# Altium footprint library AIWAC-Camera Pinboard-V02.PcbLib: 5 footprints
Each footprint in its own frame and in the unit in brackets; x right, y up, seen from the top. Pads: shape width x height; smd on the part's side, far side on the other; paste and mask are expansions set on the pad; w line width, h text height; cw(c..) or ccw(c..) is an arc to the next point about the centre after c.
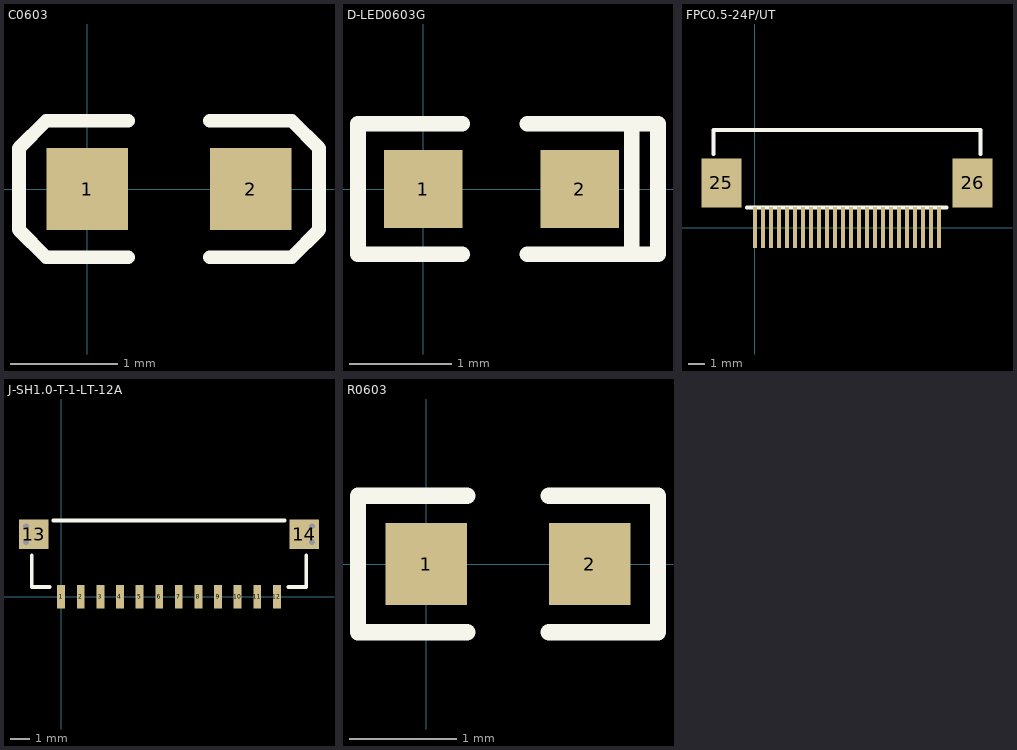
[diagram p0: the footprints below, top view; thin cyan lines are the x and y axes]

## C0603 [mil]
height 12
pads (2):
  rect 30x30 smd: 1(0,0) 2(60,0)
Top Overlay:
  lines w5: 15,-25 -15,-25 -25,-15 -25,15 -15,25 15,25 ; 45,-25 75,-25 85,-15 85,15 75,25 45,25
3D body "C0603.STEP": height 11.89, standoff 0, extent -1.49,-15.5 61.5,16

## D-LED0603G [mil]
height 39.37
pads (2):
  rect 30x30 smd: 1(0,0) 2(60,0)
Top Overlay:
  lines w6: 15,-25 -25,-25 -25,25 15,25 ; 40,-25 90,-25 90,25 40,25 ; 80,-25 80,25
3D body "LED_0603_GREEN.STEP": height 23.62, standoff 0, extent -1.89,-16.5 61.89,15

## FPC0.5-24P/UT [mm]
pads (26):
  rect 0.25x2.54 smd: 1(0,0) 2(0.5,0) 3(1,0) 4(1.5,0) 5(2,0) 6(2.5,0) 7(3,0) 8(3.5,0) 9(4,0) 10(4.5,0) 11(5,0) 12(5.5,0) 13(6,0) 14(6.5,0) 15(7,0) 16(7.5,0) 17(8,0) 18(8.5,0) 19(9,0) 20(9.5,0) 21(10,0) 22(10.5,0) 23(11,0) 24(11.5,0)
  rect 2.5x3.048 smd: 25(-2.1,2.783) 26(13.6,2.783)
Top Overlay:
  lines w0.254: -2.6,4.6 -2.6,6.085 14.1,6.085 14.1,4.6 ; -0.5,1.259 11.959,1.259

## J-SH1.0-T-1-LT-12A [mm]
pads (14):
  rect 0.4x1.2 smd: 1(0,0) 2(1,0) 3(2,0) 4(3,0) 5(4,0) 6(5,0) 7(6,0) 8(7,0) 9(8,0) 10(9,0) 11(10,0) 12(11,0)
  rect 1.5x1.5 smd: 13(-1.4,3.2) 14(12.4,3.2)
via -1.8,3.6 diameter 0.508 hole 0.305
via -1.8,2.8 diameter 0.508 hole 0.305
via 12.8,3.6 diameter 0.508 hole 0.305
via 12.8,2.8 diameter 0.508 hole 0.305
Top Overlay:
  lines w0.2: -1.5,2.1 -1.5,0.5 -0.6,0.5 ; -0.4,3.9 11.4,3.9 ; 11.6,0.5 12.5,0.5 12.5,2.1

## R0603 [mil]
height 39.37
pads (2):
  rect 30x30 smd: 1(0,0) 2(60,0)
Top Overlay:
  lines w6: 15,-25 -25,-25 -25,25 15,25 ; 45,-25 85,-25 85,25 45,25
3D body "R0603.STEP": height 17.72, standoff 0, extent -0.49,-16 62.5,15.49